# Altium schematic symbol library AD9363.Schlib: 1 symbol
Pins are listed as number, name and electrical type; pins without a type are passive.

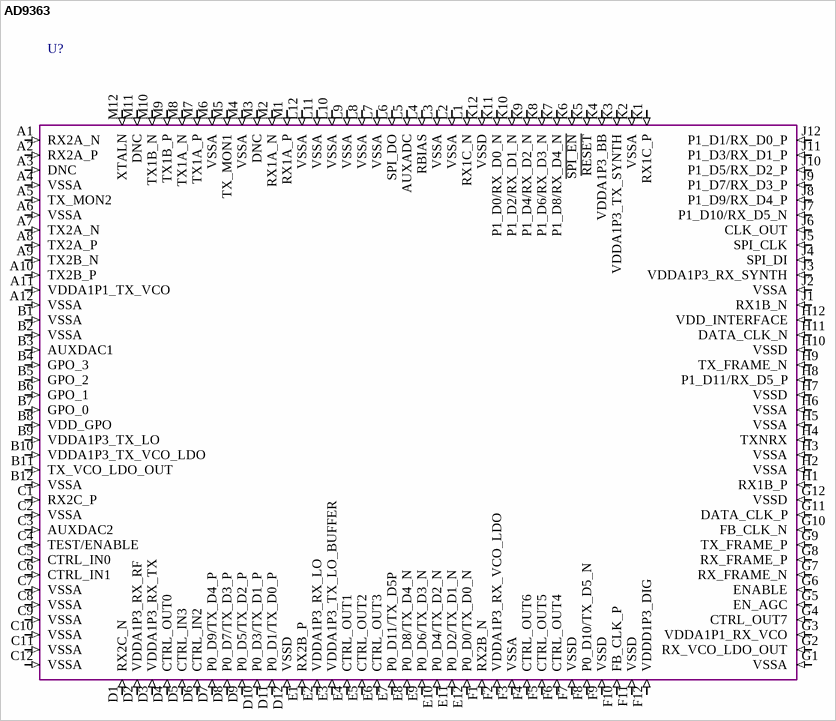
[diagram p0: symbol AD9363]

## AD9363
designator U?  (value not drawn)
pins: A1 RX2A_N (in), A2 RX2A_P (in), A3 DNC (in), A4 VSSA (in), A5 TX_MON2 (in), A6 VSSA (in), A7 TX2A_N (in), A8 TX2A_P (in), A9 TX2B_N (in), A10 TX2B_P (in), A11 VDDA1P1_TX_VCO (in), A12 VSSA (in), B1 VSSA (in), B2 VSSA (in), B3 AUXDAC1 (in), B4 GPO_3 (in), B5 GPO_2 (in), B6 GPO_1 (in), B7 GPO_0 (in), B8 VDD_GPO (in), B9 VDDA1P3_TX_LO (in), B10 VDDA1P3_TX_VCO_LDO (in), B11 TX_VCO_LDO_OUT (in), B12 VSSA (in), C1 RX2C_P (in), C2 VSSA (in), C3 AUXDAC2 (in), C4 TEST/ENABLE (in), C5 CTRL_IN0 (in), C6 CTRL_IN1 (in), C7 VSSA (in), C8 VSSA (in), C9 VSSA (in), C10 VSSA (in), C11 VSSA (in), C12 VSSA (in), D1 RX2C_N (in), D2 VDDA1P3_RX_RF (in), D3 VDDA1P3_RX_TX (in), D4 CTRL_OUT0 (in), D5 CTRL_IN3 (in), D6 CTRL_IN2 (in), D7 P0_D9/TX_D4_P (in), D8 P0_D7/TX_D3_P (in), D9 P0_D5/TX_D2_P (in), D10 P0_D3/TX_D1_P (in), D11 P0_D1/TX_D0_P (in), D12 VSSD (in), E1 RX2B_P (in), E2 VDDA1P3_RX_LO (in), E3 VDDA1P3_TX_LO_BUFFER (in), E4 CTRL_OUT1 (in), E5 CTRL_OUT2 (in), E6 CTRL_OUT3 (in), E7 P0_D11/TX_D5P (in), E8 P0_D8/TX_D4_N (in), E9 P0_D6/TX_D3_N (in), E10 P0_D4/TX_D2_N (in), E11 P0_D2/TX_D1_N (in), E12 P0_D0/TX_D0_N (in), F1 RX2B_N (in), F2 VDDA1P3_RX_VCO_LDO (in), F3 VSSA (in), F4 CTRL_OUT6 (in), F5 CTRL_OUT5 (in), F6 CTRL_OUT4 (in), F7 VSSD (in), F8 P0_D10/TX_D5_N (in), F9 VSSD (in), F10 FB_CLK_P (in), F11 VSSD (in), F12 VDDD1P3_DIG (in), G1 VSSA (in), G2 RX_VCO_LDO_OUT (in), G3 VDDA1P1_RX_VCO (in), G4 CTRL_OUT7 (in), G5 EN_AGC (in), G6 ENABLE (in), G7 RX_FRAME_N (in), G8 RX_FRAME_P (in), G9 TX_FRAME_P (in), G10 FB_CLK_N (in), G11 DATA_CLK_P (in), G12 VSSD (in), H1 RX1B_P (in), H2 VSSA (in), H3 VSSA (in), H4 TXNRX (in), H5 VSSA (in), H6 VSSA (in), H7 VSSD (in), H8 P1_D11/RX_D5_P (in), H9 TX_FRAME_N (in), H10 VSSD (in), H11 DATA_CLK_N (in), H12 VDD_INTERFACE (in), J1 RX1B_N (in), J2 VSSA (in), J3 VDDA1P3_RX_SYNTH (in), J4 SPI_DI (in), J5 SPI_CLK (in), J6 CLK_OUT (in), J7 P1_D10/RX_D5_N (in), J8 P1_D9/RX_D4_P (in), J9 P1_D7/RX_D3_P (in), J10 P1_D5/RX_D2_P (in), J11 P1_D3/RX_D1_P (in), J12 P1_D1/RX_D0_P (in), K1 RX1C_P (in), K2 VSSA (in), K3 VDDA1P3_TX_SYNTH (in), K4 VDDA1P3_BB (in), K5 ~{RESET} (in), K6 ~{SPI_EN} (in), K7 P1_D8/RX_D4_N (in), K8 P1_D6/RX_D3_N (in), K9 P1_D4/RX_D2_N (in), K10 P1_D2/RX_D1_N (in), K11 P1_D0/RX_D0_N (in), K12 VSSD (in), L1 RX1C_N (in), L2 VSSA (in), L3 VSSA (in), L4 RBIAS (in), L5 AUXADC (in), L6 SPI_DO (in), L7 VSSA (in), L8 VSSA (in), L9 VSSA (in), L10 VSSA (in), L11 VSSA (in), L12 VSSA (in), M1 RX1A_P (in), M2 RX1A_N (in), M3 DNC (in), M4 VSSA (in), M5 TX_MON1 (in), M6 VSSA (in), M7 TX1A_P (in), M8 TX1A_N (in), M9 TX1B_P (in), M10 TX1B_N (in), M11 DNC (in), M12 XTALN (in)
2 alternate drawings of the same symbol